# Altium footprint library belfuse_0826-1l1t-57-f.PcbLib: 1 footprints
Each footprint in its own frame and in the unit in brackets; x right, y up, seen from the top. Pads: shape width x height; smd on the part's side, far side on the other; paste and mask are expansions set on the pad; w line width, h text height; cw(c..) or ccw(c..) is an arc to the next point about the centre after c.
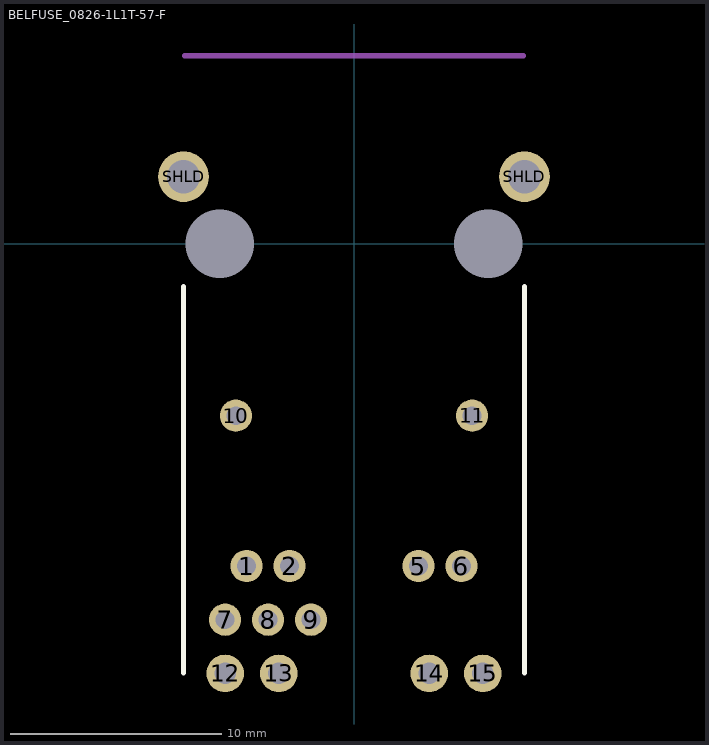
[diagram p0: the footprint, top view; thin cyan lines are the x and y axes]

## BELFUSE_0826-1L1T-57-F [mil]
height 535.83
pads (17):
  rect 0x0 hole 128: 0(-250,0) 0(250,0)
  round 60 hole 35: 1(-200,-600) 2(-120,-600) 5(120,-600) 6(200,-600) 7(-240,-700) 8(-160,-700) 9(-80,-700) 10(-220,-320) 11(220,-320)
  round 70 hole 40: 12(-240,-800) 13(-140,-800) 14(140,-800) 15(240,-800)
  round 94.49 hole 62: SHLD(-317.5,125) SHLD(317.5,125)
Top Overlay:
  lines w10: -317.5,-799.21 -317.5,-79.5 ; 317.5,-799.21 317.5,-79.5
Top 3D Body (Mech13):
  lines w10: -314.96,350.2 314.96,350.2
  text "Enclosure" at -73.74,359.33 h19.68
3D body "0826-1L1T-57-F-colorized.step": height 586.99, standoff -146.82, extent -373.99,-858 373.99,456.89